# Altium footprint library rcl.PCBLIB: 487 footprints (part 21 of 31)
Each footprint in its own frame and in the unit in brackets; x right, y up, seen from the top. Pads: shape width x height; smd on the part's side, far side on the other; paste and mask are expansions set on the pad; w line width, h text height; cw(c..) or ccw(c..) is an arc to the next point about the centre after c.
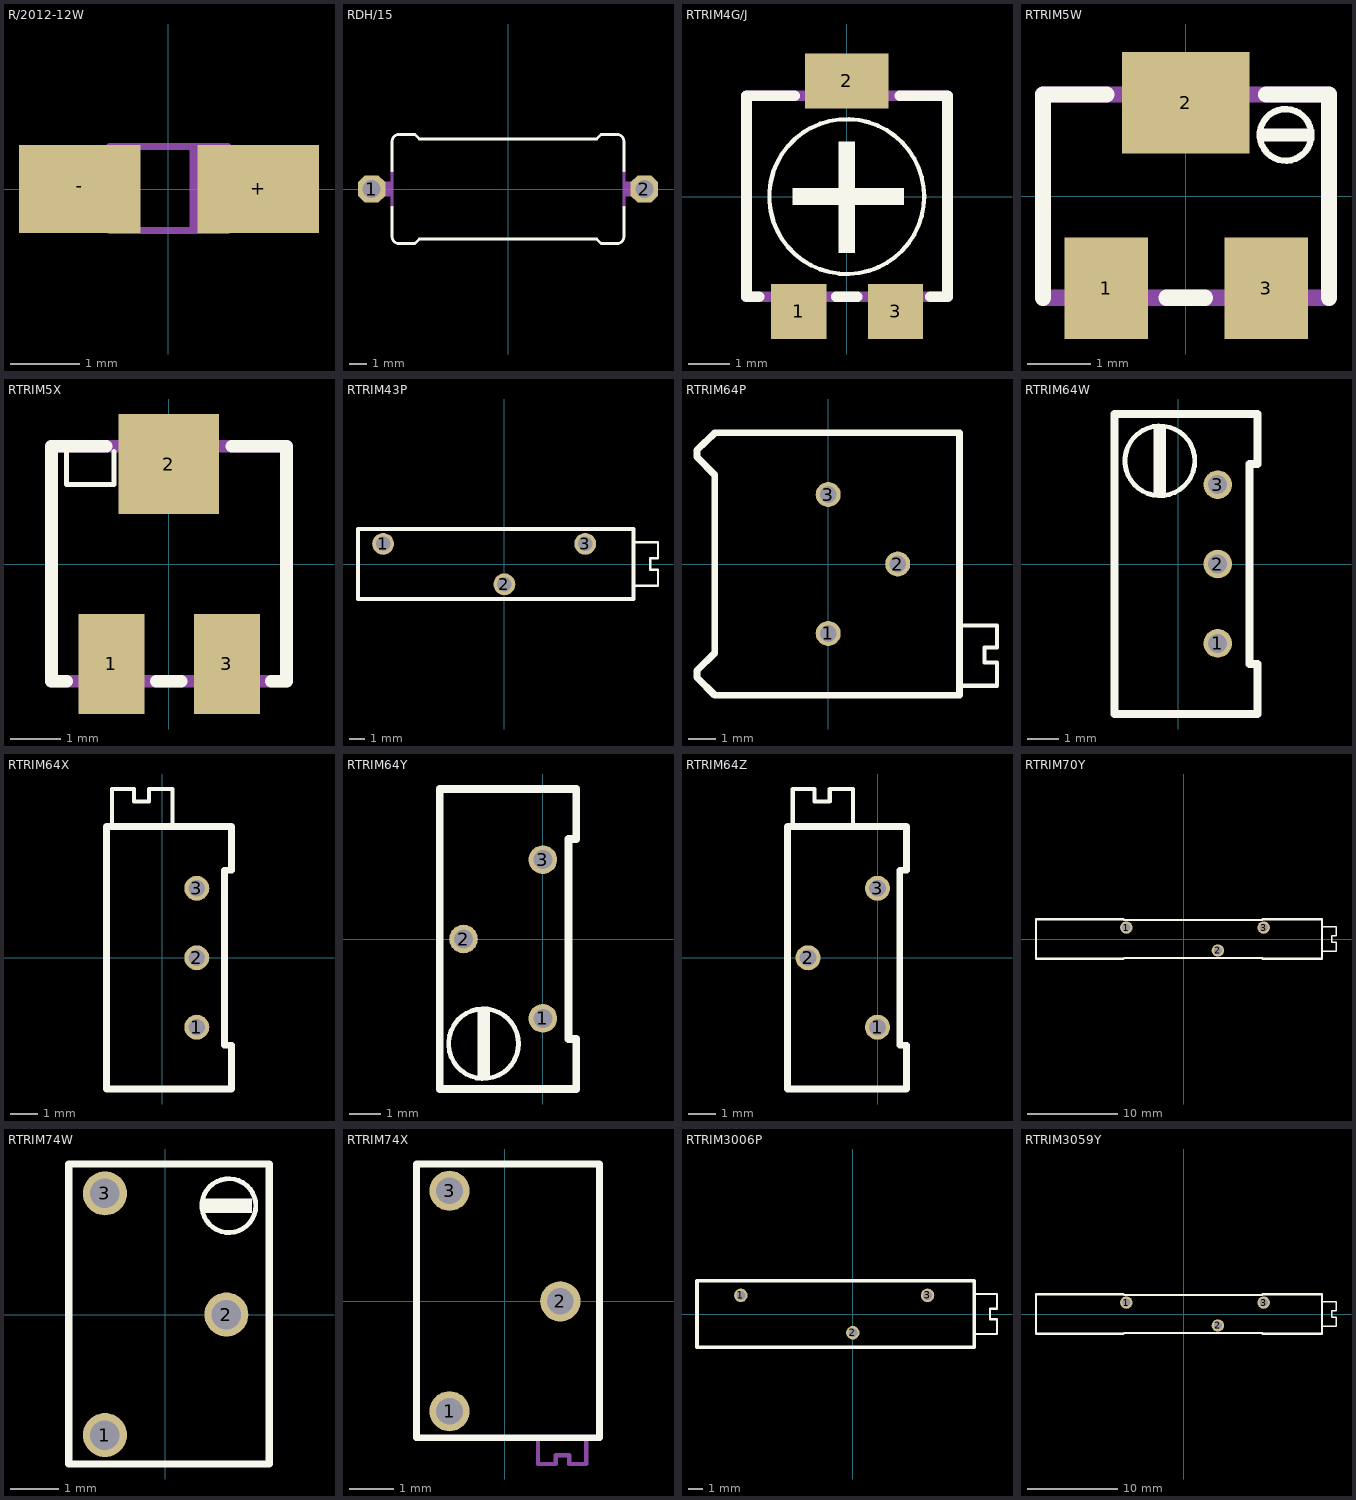
[diagram p20: the footprints below, top view; thin cyan lines are the x and y axes]

## R/2012-12W [mil]
pads (2):
  rect 69x50 smd: +(51,0) -(-50.2,0)
Mechanical 16:
  rectangle: -39.37,-17.72 -34.45,18
  rectangle: 35,-17.72 40,18
  rectangle: 12,-24.61 20,25
  lines w4: -33.46,-23.62 34,-23.62 34,24 -33.46,24 -33.46,-23.62

## RDH/15 [mil]
pads (2):
  oct 60x60 hole 40: 1(-300,0) 2(300,0)
Top Overlay:
  lines w6: -255,-40 -255,-105 ccw(c-240,-105) -240,-120 -205,-120 -195,-110 195,-110 205,-120 240,-120 ccw(c240,-105) 255,-105 255,-40 ; -255,40 -255,105 cw(c-240,105) -240,120 -205,120 -195,110 195,110 205,120 240,120 cw(c240,105) 255,105 255,40
Mechanical 16:
  rectangle: -266,-16 -254,16
  rectangle: 254,-16 266,16
  lines w6: -255,-40 -255,40 ; 255,-40 255,40
  lines w32: -300,0 -270,0 ; 270,0 300,0
  text "RDH" at 180,-68 h77.5

## RTRIM4G/J [mil]
pads (3):
  rect 52x52 smd: 1(-45.28,-108.27) 3(46,-108.27)
  rect 79x52 smd: 2(0,109)
Top Overlay:
  circle w4: c0,0 r73
  rectangle: -51.18,-7.87 54,8
  rectangle: -7.87,-53.15 8,52
  lines w10: -82.68,-94.49 -94.49,-94.49 -94.49,95 -49.21,95 ; -9.84,-94.49 10,-94.49 ; 50,95 95,95 95,-94.49 79,-94.49
Mechanical 16:
  lines w10: -94.49,-94.49 -94.49,95 95,95 95,-94.49 -94.49,-94.49

## RTRIM5W [mil]
pads (3):
  rect 52x63 smd: 1(-49.21,-57.09) 3(50,-57.09)
  rect 79x63 smd: 2(0,58)
Top Overlay:
  circle w4: c62,38 r16
  rectangle: 46,34 77,42
  lines w10: -88.58,-62.99 -88.58,63 -49.21,63 ; -11.81,-62.99 12,-62.99 ; 50,63 89,63 89,-62.99
Mechanical 16:
  lines w10: -88.58,-62.99 -88.58,63 89,63 89,-62.99 -88.58,-62.99

## RTRIM5X [mil]
pads (3):
  rect 52x79 smd: 1(-45.28,-78.74) 3(46,-78.74)
  rect 79x79 smd: 2(0,79)
Top Overlay:
  lines w4: -80.71,89 -80.71,63 -43.31,63 -43.31,89
  lines w10: -80.71,-92.52 -92.52,-92.52 -92.52,93 -49.21,93 ; -9.84,-92.52 10,-92.52 ; 50,93 93,93 93,-92.52 81,-92.52
Mechanical 16:
  lines w10: -92.52,-92.52 -92.52,93 93,93 93,-92.52 -92.52,-92.52

## RTRIM43P [mil]
pads (3):
  round 54 hole 36: 1(-300,50) 2(0,-50) 3(200,50)
Top Overlay:
  lines w6: 323,-53.15 380,-53.15 380,-13.78 361,-13.78 361,14 380,14 380,54 323,54
  lines w10: -362.2,-86.61 -362.2,87 319,87 319,-86.61 -362.2,-86.61

## RTRIM64P [mil]
pads (3):
  round 36 hole 24: 1(0,-100) 2(100,0) 3(0,100)
Top Overlay:
  lines w6: 195,-175.2 243,-175.2 243,-141.73 225,-141.73 225,-120.08 243,-120.08 243,-88.58 195,-88.58
  lines w10: -188.98,-163.39 -188.98,-153.54 -163.39,-127.95 -163.39,128 -188.98,154 -188.98,164 -163.39,189 189,189 189,-188.98 -163.39,-188.98 -188.98,-163.39

## RTRIM64W [mil]
pads (3):
  round 36 hole 24: 1(50,-100) 2(50,0) 3(50,100)
Top Overlay:
  circle w6: c-22.83,130 r44
  rectangle: -30.71,89 -14.96,172
  lines w10: -79.92,-188.98 100,-188.98 100,-125.98 90,-125.98 90,126 100,126 100,189 -79.92,189 -79.92,-188.98

## RTRIM64X [mil]
pads (3):
  round 36 hole 24: 1(50,-100) 2(50,0) 3(50,100)
Top Overlay:
  lines w6: -72.05,195 -72.05,243 -40.55,243 -40.55,225 -18.9,225 -18.9,243 15,243 15,195
  lines w10: -79.92,-188.98 100,-188.98 100,-125.98 90,-125.98 90,126 100,126 100,189 -79.92,189 -79.92,-188.98

## RTRIM64Y [mil]
pads (3):
  round 36 hole 24: 1(0,-100) 2(-100,0) 3(0,100)
Top Overlay:
  circle w6: c-74.8,-131.89 r44
  rectangle: -82.68,-173.23 -66.93,-90.55
  lines w10: -129.92,-188.98 42,-188.98 42,-125.98 32,-125.98 32,126 42,126 42,189 -129.92,189 -129.92,-188.98

## RTRIM64Z [mil]
pads (3):
  round 36 hole 24: 1(0,-100) 2(-100,0) 3(0,100)
Top Overlay:
  lines w6: -122.05,195 -122.05,243 -90.55,243 -90.55,225 -68.9,225 -68.9,243 -35.43,243 -35.43,195
  lines w10: -129.92,-188.98 42,-188.98 42,-125.98 32,-125.98 32,126 42,126 42,189 -129.92,189 -129.92,-188.98

## RTRIM70Y [mil]
pads (3):
  round 54 hole 36: 1(-250,50) 2(150,-50) 3(350,50)
Top Overlay:
  lines w6: 609,-53.15 666,-53.15 666,-13.78 647,-13.78 647,14 666,14 666,54 609,54
  lines w10: -644.49,-86.61 -644.49,87 -263.39,87 -259.45,83 343,83 347,87 605,87 605,-86.61 347,-86.61 343,-82.68 -259.45,-82.68 -263.39,-86.61 -644.49,-86.61

## RTRIM74W [mil]
pads (3):
  round 36 hole 24: 1(-49.21,-98.43) 2(50,0) 3(-49.21,99)
Top Overlay:
  circle w4: c52,89 r22
  rectangle: 32,83 71,95
  lines w6: -78.74,-122.05 -78.74,123 85,123 85,-122.05 -78.74,-122.05

## RTRIM74X [mil]
pads (3):
  round 36 hole 24: 1(-49.21,-98.43) 2(50,0) 3(-49.21,99)
Top Overlay:
  lines w6: -78.74,-122.05 -78.74,123 85,123 85,-122.05 -78.74,-122.05
Mechanical 2:
  lines w4: 30,-124.02 30,-145.67 46,-145.67 46,-137.8 58,-137.8 58,-145.67 73,-145.67 73,-124.02

## RTRIM3006P [mil]
pads (3):
  round 36 hole 24: 1(-300,50) 2(0,-50) 3(200,50)
Top Overlay:
  lines w6: 329,-53.15 386,-53.15 386,-13.78 367,-13.78 367,14 386,14 386,54 329,54
  lines w10: -417.32,-88.58 -417.32,89 325,89 325,-88.58 -417.32,-88.58

## RTRIM3059Y [mil]
pads (3):
  round 54 hole 36: 1(-250,50) 2(150,-50) 3(350,50)
Top Overlay:
  lines w6: 609,-53.15 666,-53.15 666,-13.78 647,-13.78 647,14 666,14 666,54 609,54
  lines w10: -644.49,-86.61 -644.49,87 -263.39,87 -259.45,83 343,83 347,87 605,87 605,-86.61 347,-86.61 343,-82.68 -259.45,-82.68 -263.39,-86.61 -644.49,-86.61